# EAGLE library part PIC18F4*K80 (library netnode)
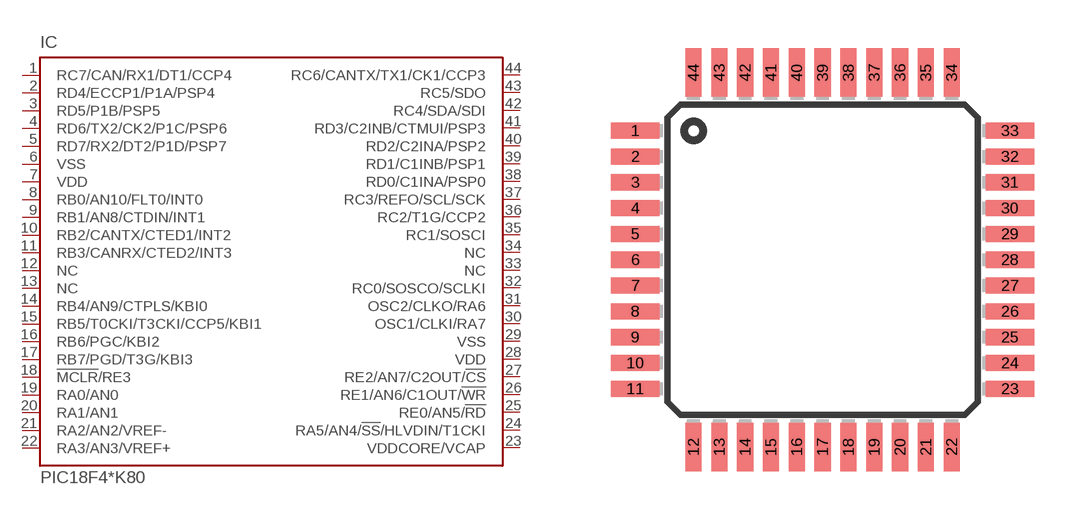
[diagram p10: symbol with the pads of TQFP44; footprint TQFP44]

Designator prefix IC

## PIC18F4K80  [TQFP44]
1  RC7/CAN/RX1/DT1/CCP4
2  RD4/ECCP1/P1A/PSP4
3  RD5/P1B/PSP5
4  RD6/TX2/CK2/P1C/PSP6
5  RD7/RX2/DT2/P1D/PSP7
6  VSS  pwr
7  VDD  pwr
8  RB0/AN10/FLT0/INT0
9  RB1/AN8/CTDIN/INT1
10  RB2/CANTX/CTED1/INT2
11  RB3/CANRX/CTED2/INT3
12  NC  nc
13  NC  nc
14  RB4/AN9/CTPLS/KBI0
15  RB5/T0CKI/T3CKI/CCP5/KBI1
16  RB6/PGC/KBI2
17  RB7/PGD/T3G/KBI3
18  !MCLR!/RE3  in
19  RA0/AN0
20  RA1/AN1
21  RA2/AN2/VREF-
22  RA3/AN3/VREF+
23  VDDCORE/VCAP
24  RA5/AN4/!SS!/HLVDIN/T1CKI
25  RE0/AN5/!RD
26  RE1/AN6/C1OUT/!WR
27  RE2/AN7/C2OUT/!CS
28  VDD  pwr
29  VSS  pwr
30  OSC1/CLKI/RA7  in
31  OSC2/CLKO/RA6  out
32  RC0/SOSCO/SCLKI
33  NC  nc
34  NC  nc
35  RC1/SOSCI
36  RC2/T1G/CCP2
37  RC3/REFO/SCL/SCK
38  RD0/C1INA/PSP0
39  RD1/C1INB/PSP1
40  RD2/C2INA/PSP2
41  RD3/C2INB/CTMUI/PSP3
42  RC4/SDA/SDI
43  RC5/SDO
44  RC6/CANTX/TX1/CK1/CCP3

## Footprint TQFP44 (pad centres in mm)
Thin Quad Flat Pack package type TQ
smd 1.5 x 0.5: 1 -5.8,4; 2 -5.8,3.2; 3 -5.8,2.4; 4 -5.8,1.6; 5 -5.8,0.8; 6 -5.8,0; 7 -5.8,-0.8; 8 -5.8,-1.6; 9 -5.8,-2.4; 10 -5.8,-3.2; 11 -5.8,-4; 23 5.8,-4; 24 5.8,-3.2; 25 5.8,-2.4; 26 5.8,-1.6; 27 5.8,-0.8; 28 5.8,0; 29 5.8,0.8; 30 5.8,1.6; 31 5.8,2.4; 32 5.8,3.2; 33 5.8,4
smd 0.5 x 1.5: 12 -4,-5.8; 13 -3.2,-5.8; 14 -2.4,-5.8; 15 -1.6,-5.8; 16 -0.8,-5.8; 17 0,-5.8; 18 0.8,-5.8; 19 1.6,-5.8; 20 2.4,-5.8; 21 3.2,-5.8; 22 4,-5.8; 34 4,5.8; 35 3.2,5.8; 36 2.4,5.8; 37 1.6,5.8; 38 0.8,5.8; 39 0,5.8; 40 -0.8,5.8; 41 -1.6,5.8; 42 -2.4,5.8; 43 -3.2,5.8; 44 -4,5.8